# EAGLE library part PINHD-1X11 (library apro)
PIN HEADER
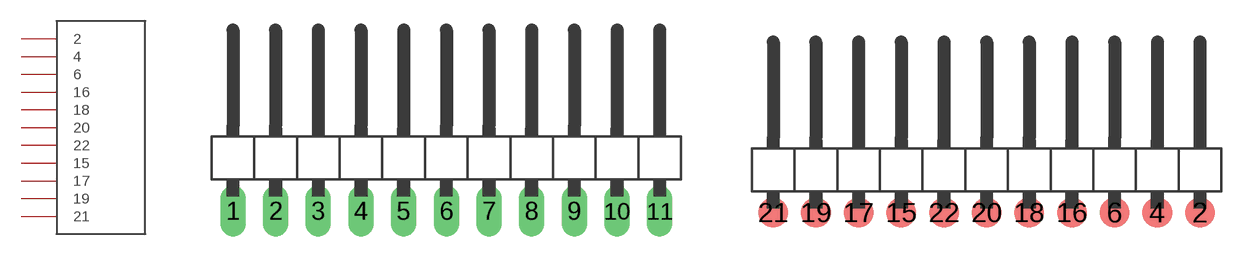
[diagram p8: symbol with the pads of 1X11/90; footprints 1X11/90, 1X11/90_2]

Designator prefix JP

## PINHD-1X11/90  [1X11/90]

## PINHD-1X11SMD  [1X11/90_2]
2  2
4  4
6  6
15  15
16  16
17  17
18  18
19  19
20  20
21  21
22  22

## Footprint 1X11/90 (pad centres in mm)
PIN HEADER
drill 1.016 long: 1 -12.7,-3.81; 2 -10.16,-3.81; 3 -7.62,-3.81; 4 -5.08,-3.81; 5 -2.54,-3.81; 6 0,-3.81; 7 2.54,-3.81; 8 5.08,-3.81; 9 7.62,-3.81; 10 10.16,-3.81; 11 12.7,-3.81

## Footprint 1X11/90_2 (pad centres in mm)
smd 1.778 x 1.778: 2 11.43,-2.54; 4 8.89,-2.54; 6 6.35,-2.54; 15 -6.35,-2.54; 16 3.81,-2.54; 17 -8.89,-2.54; 18 1.27,-2.54; 19 -11.43,-2.54; 20 -1.27,-2.54; 21 -13.97,-2.54; 22 -3.81,-2.54